# EAGLE library part TDA7050 (library oldschool)
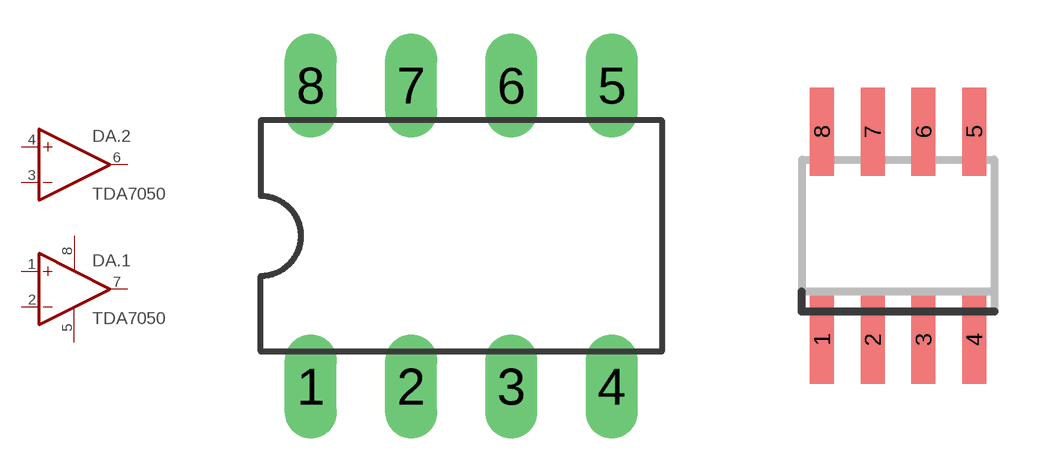
[diagram p9: symbol with the pads of DIL08; footprints DIL08, SO08]

Designator prefix DA; gates .1=OPAMP .2=OPAMP P=PWR+-

## TDA7050  [DIL08]
1  .1:+IN  in
2  .1:-IN  in
3  .2:-IN  in
4  .2:+IN  in
5  P:V-  pwr
6  .2:OUT  out
7  .1:OUT  out
8  P:V+  pwr

## TDA7050-SO8  [SO08]
Pads as for DIL08

## Footprint DIL08 (pad centres in mm)
Dual In Line Package
drill 0.813 long: 1 -3.81,-3.81; 2 -1.27,-3.81; 3 1.27,-3.81; 4 3.81,-3.81; 5 3.81,3.81; 6 1.27,3.81; 7 -1.27,3.81; 8 -3.81,3.81

## Footprint SO08 (pad centres in mm)
Small Outline Package 8 NS Package M08A
smd 0.6 x 2.2: 1 -1.905,-2.6; 2 -0.635,-2.6; 3 0.635,-2.6; 4 1.905,-2.6; 5 1.905,2.6; 6 0.635,2.6; 7 -0.635,2.6; 8 -1.905,2.6